# EAGLE library part BMP388_QT (library BMP388_QT)
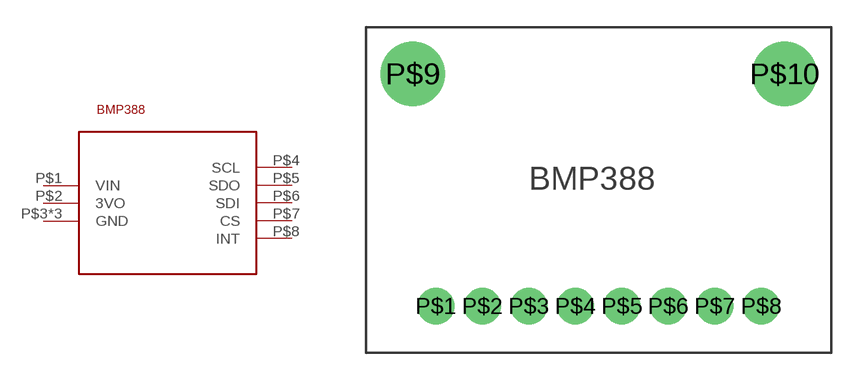
[diagram p0: symbol with the pads of BMP388_QT; footprint BMP388_QT]

Designator prefix -

## BMP388_QT  [BMP388_QT]
P$1  VIN
P$2  3VO
P$3  GND
P$4  SCL
P$5  SDO
P$6  SDI
P$7  CS
P$8  INT
P$9  GND
P$10  GND

## Footprint BMP388_QT (pad centres in mm)
drill 1 pad 2: P$1 3.81,2.54; P$2 6.35,2.54; P$3 8.89,2.54; P$4 11.43,2.54; P$5 13.97,2.54; P$6 16.51,2.54; P$7 19.05,2.54; P$8 21.59,2.54
drill 2.5: P$9 2.54,15.24; P$10 22.86,15.24